# EAGLE library part BLUENRG (library Bluetooth)
Bluetooth® low energy wireless network processor
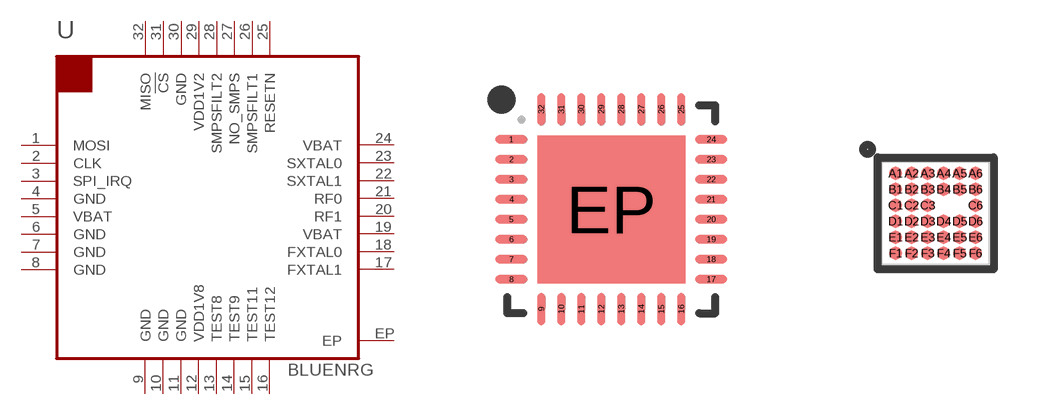
[diagram p0: symbol with the pads of QFN32EP; footprints QFN32EP, WLCSP34]

Designator prefix U

## BLUENRGQTR (MFPN: BLUENRGQTR; PARTNO: 01-100512-00)  [QFN32EP]
1  MOSI  in
2  CLK  in
3  SPI_IRQ  out
4  GND  pwr
5  VBAT  pwr
6  GND  pwr
7  GND  pwr
8  GND  pwr
9  GND  pwr
10  GND  pwr
11  GND  pwr
12  VDD1V8  out
13  TEST8
14  TEST9
15  TEST11
16  TEST12
17  FXTAL1  in
18  FXTAL0  in
19  VBAT  pwr
20  RF1
21  RF0
22  SXTAL1  in
23  SXTAL0  in
24  VBAT  pwr
25  RESETN  in
26  SMPSFILT1  out
27  NO_SMPS  in
28  SMPSFILT2
29  VDD1V2  out
30  GND  pwr
31  !CS  in
32  MISO  out
EP  EP  pwr

## BLUENRGWLCSP  [WLCSP34]
A1  GND  pwr
A2  GND  pwr
A3  VDD1V8  out
A4  TEST8
A5  TEST9
A6  FXTAL1  in
B1  GND  pwr
B2  GND  pwr
B3  GND  pwr
B4  TEST11
B5  TEST12
B6  FXTAL0  in
C1  VBAT  pwr
C2  GND  pwr
C3  EP  pwr
C6  RF1
D1  GND  pwr
D2  SPI_IRQ  out
D3  EP  pwr
D4  EP  pwr
D5  VBAT  pwr
D6  RF0
E1  CLK  in
E2  MOSI  in
E3  GND  pwr
E4  RESETN  in
E5  SXTAL0  in
E6  SXTAL1  in
F1  MISO  out
F2  !CS  in
F3  VDD1V2  out
F4  NO_SMPS  in
F5  SMPSFILT2
F6  SMPSFILT1  out

## Footprint QFN32EP (pad centres in mm)
QFN32 5x5 mm 0.5mm pitch with exposed pad
smd 0.8 x 0.2: 1 -2.5,1.75; 2 -2.5,1.25; 3 -2.5,0.75; 4 -2.5,0.25; 5 -2.5,-0.25; 6 -2.5,-0.75; 7 -2.5,-1.25; 8 -2.5,-1.75; 17 2.5,-1.75; 18 2.5,-1.25; 19 2.5,-0.75; 20 2.5,-0.25; 21 2.5,0.25; 22 2.5,0.75; 23 2.5,1.25; 24 2.5,1.75
smd 0.2 x 0.8: 9 -1.75,-2.5; 10 -1.25,-2.5; 11 -0.75,-2.5; 12 -0.25,-2.5; 13 0.25,-2.5; 14 0.75,-2.5; 15 1.25,-2.5; 16 1.75,-2.5; 25 1.75,2.5; 26 1.25,2.5; 27 0.75,2.5; 28 0.25,2.5; 29 -0.25,2.5; 30 -0.75,2.5; 31 -1.25,2.5; 32 -1.75,2.5
smd 3.7 x 3.7: EP 0,0

## Footprint WLCSP34 (pad centres in mm)
2.66 x 2.56 x 0.5 pitch 0.4mm
smd 0.32 x 0.32: A1 -1,1; A2 -0.6,1; A3 -0.2,1; A4 0.2,1; A5 0.6,1; A6 1,1; B1 -1,0.6; B2 -0.6,0.6; B3 -0.2,0.6; B4 0.2,0.6; B5 0.6,0.6; B6 1,0.6; C1 -1,0.2; C2 -0.6,0.2; C3 -0.2,0.2; C6 1,0.2; D1 -1,-0.2; D2 -0.6,-0.2; D3 -0.2,-0.2; D4 0.2,-0.2; D5 0.6,-0.2; D6 1,-0.2; E1 -1,-0.6; E2 -0.6,-0.6; E3 -0.2,-0.6; E4 0.2,-0.6; E5 0.6,-0.6; E6 1,-0.6; F1 -1,-1; F2 -0.6,-1; F3 -0.2,-1; F4 0.2,-1; F5 0.6,-1; F6 1,-1